# Altium footprint library con-subd.PCBLIB: 94 footprints (part 3 of 6)
Each footprint in its own frame and in the unit in brackets; x right, y up, seen from the top. Pads: shape width x height; smd on the part's side, far side on the other; paste and mask are expansions set on the pad; w line width, h text height; cw(c..) or ccw(c..) is an arc to the next point about the centre after c.
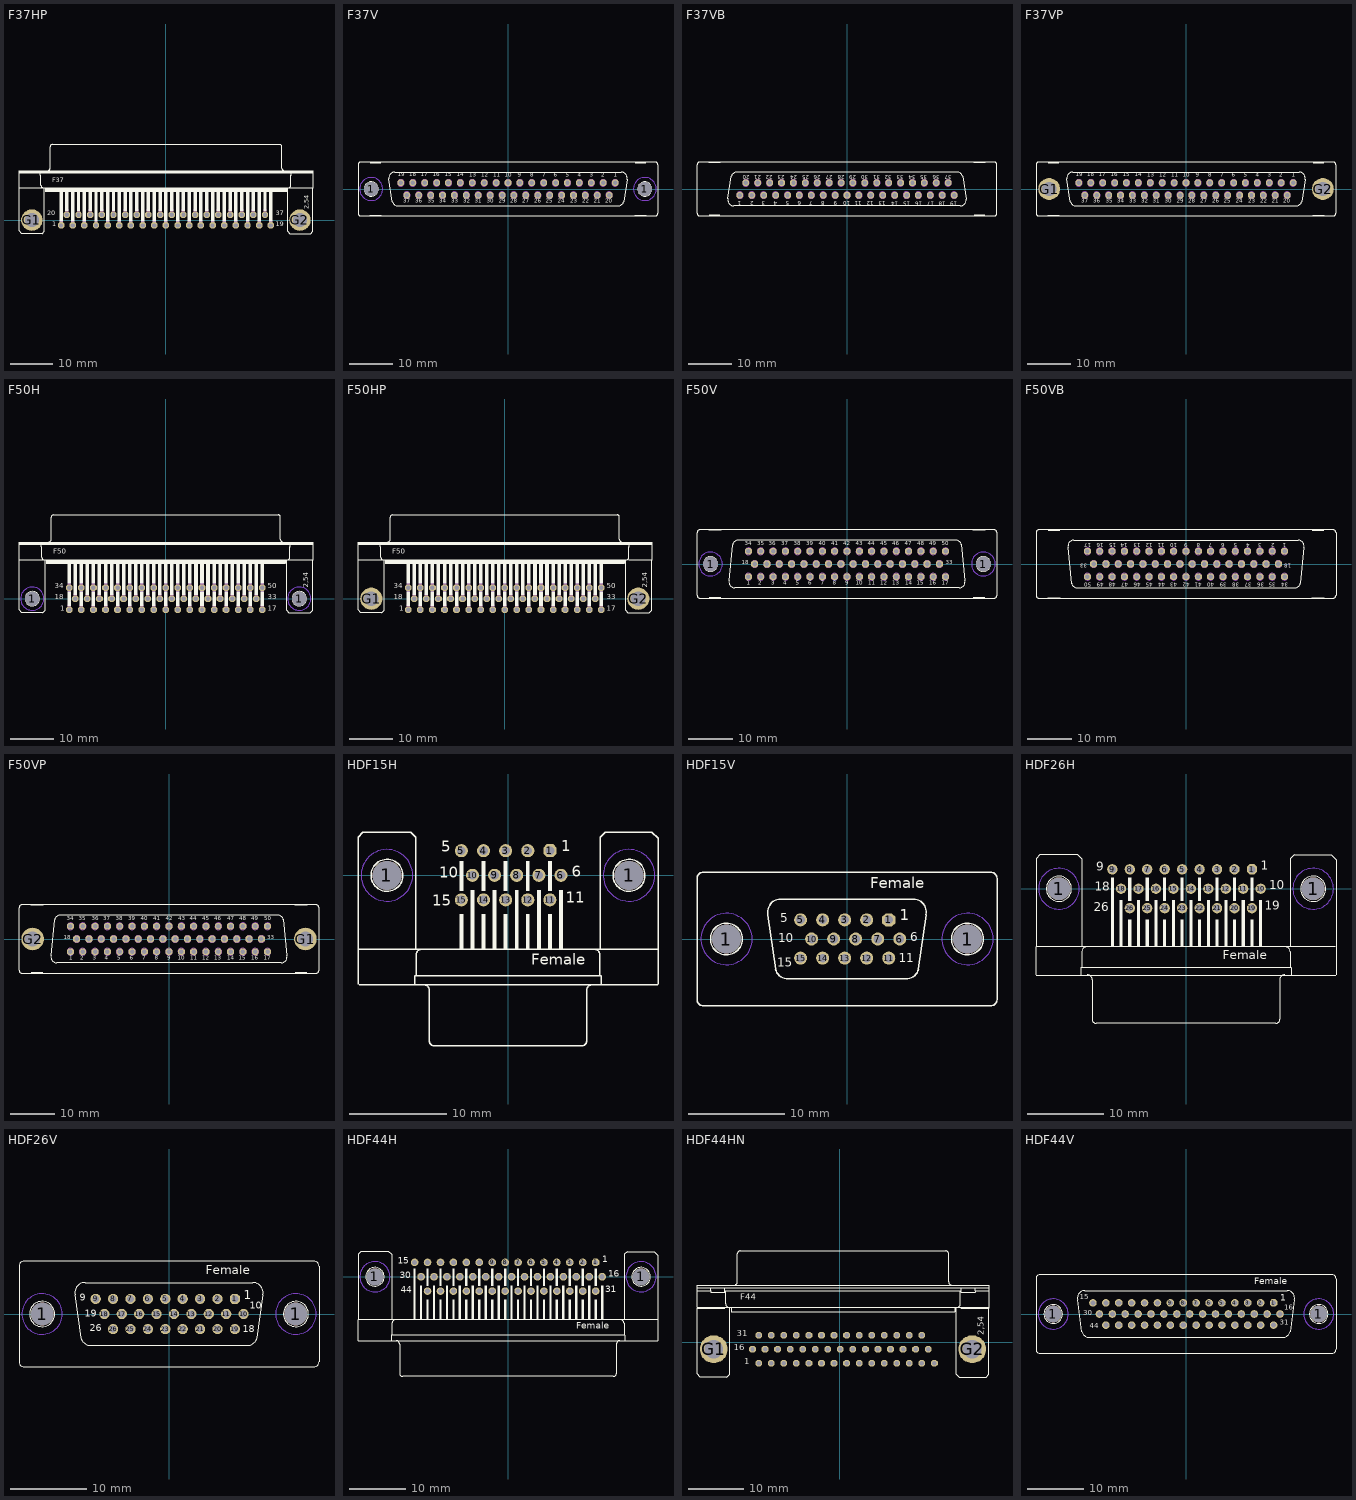
[diagram p2: the footprints below, top view; thin cyan lines are the x and y axes]

## F37HP [mil]
pads (39):
  oct 60x60 hole 40: 1(-978,-50) 2(-869,-50) 3(-761,-50) 4(-652,-50) 5(-543,-50) 6(-435,-50) 7(-326,-50) 8(-217,-50) 9(-109,-50) 10(0,-50) 11(109,-50) 12(217,-50) 13(326,-50) 14(435,-50) 15(544,-50) 16(652,-50) 17(761,-50) 18(870,-50) 19(978,-50) 20(-924,50) 21(-815,50) 22(-706,50) 23(-598,50) 24(-489,50) 25(-380,50) 26(-272,50) 27(-163,50) 28(-54,50) 29(54,50) 30(163,50) 31(272,50) 32(381,50) 33(489,50) 34(598,50) 35(707,50) 36(815,50) 37(924,50)
  round 200 hole 130: G1(-1250,0) G2(1250,0)
Top Overlay:
  circle w6: c-1250,0 r65
  circle w6: c1250,0 r65
  rectangle: -1125,270 1125,300
  rectangle: -1370,440 1370,460
  rectangle: -994,-15 -962,270
  rectangle: -940,85 -908,270
  rectangle: -885,-15 -853,270
  rectangle: -831,85 -799,270
  rectangle: -777,-15 -745,270
  rectangle: -722,85 -690,270
  rectangle: -668,-15 -636,270
  rectangle: -614,85 -582,270
  rectangle: -559,-15 -527,270
  rectangle: -505,85 -473,270
  rectangle: -451,-15 -419,270
  rectangle: -396,85 -364,270
  rectangle: -342,-15 -310,270
  rectangle: -288,85 -256,270
  rectangle: -233,-15 -201,270
  rectangle: -179,85 -147,270
  rectangle: -124,-15 -92,270
  rectangle: -70,85 -38,270
  rectangle: -16,-15 16,270
  rectangle: 38,85 70,270
  rectangle: 93,-15 125,270
  rectangle: 147,85 179,270
  rectangle: 201,-15 233,270
  rectangle: 256,85 288,270
  rectangle: 310,-15 342,270
  rectangle: 364,85 396,270
  rectangle: 419,-15 451,270
  rectangle: 473,85 505,270
  rectangle: 528,-15 560,270
  rectangle: 582,85 614,270
  rectangle: 636,-15 668,270
  rectangle: 691,85 723,270
  rectangle: 746,-15 778,270
  rectangle: 799,85 831,270
  rectangle: 853,-15 885,270
  rectangle: 908,85 940,270
  rectangle: 962,-15 994,270
  lines w6: -1140,300 cw(c-1140,325) -1165,325 -1165,420 -1170,420 -1170,440 ; -1105,460 ccw(c-1105,485) -1080,485 -1080,685 cw(c-1060,685) -1060,705 -1050,705 1050,705 1060,705 cw(c1060,685) 1080,685 1080,485 ccw(c1105,485) 1105,460 ; 1140,300 ccw(c1140,325) 1165,325 1165,420 1170,420 1170,440 ; -1370,300 -1170,300 -1135,300 ; -1370,300 -1370,420 -1370,440 ; -1370,300 -1370,295 -1370,-100 -1345,-125 -1155,-125 -1135,-105 -1135,300 ; -1370,440 -1370,460 -1065,460 1065,460 1370,460 1370,440 ; -1370,440 -1270,440 -1170,440 ; -1170,440 1170,440 ; -1135,300 -1125,300 ; -1125,300 -1125,270 1125,270 1125,300 ; -1125,300 1125,300 ; 1125,300 1135,300 ; 1135,300 1170,300 1370,300 ; 1135,300 1135,-105 1155,-125 1350,-125 1370,-105 1370,295 1370,300 ; 1170,440 1270,440 1370,440 ; 1370,300 1370,420 1370,440
  text "1" at -1060,-75 h77.5
  text "19" at 1025,-75 h77.5
  text "20" at -1105,25 h77.5
  text "37" at 1025,25 h77.5
  text "2,54" at 1350,100 h77.5
  text "F37" at -1060,335 h77.5
Mechanical 16:
  lines w32: -978,-45 -978,-5 ; -924,55 -924,95 ; -869,-45 -869,-5 ; -815,55 -815,95 ; -761,-45 -761,-5 ; -706,55 -706,95 ; -652,-45 -652,-5 ; -598,55 -598,95 ; -543,-45 -543,-5 ; -489,55 -489,95 ; -435,-45 -435,-5 ; -380,55 -380,95 ; -326,-45 -326,-5 ; -272,55 -272,95 ; -217,-45 -217,-5 ; -163,55 -163,95 ; -109,-45 -109,-5 ; -54,55 -54,95 ; 0,-45 0,-5 ; 54,55 54,95 ; 109,-45 109,-5 ; 163,55 163,95 ; 217,-45 217,-5 ; 272,55 272,95 ; 326,-45 326,-5 ; 380,55 380,95 ; 435,-45 435,-5 ; 489,55 489,95 ; 544,-45 544,-5 ; 598,55 598,95 ; 652,-45 652,-5 ; 707,55 707,95 ; 761,-45 761,-5 ; 815,55 815,95 ; 870,-45 870,-5 ; 924,55 924,95 ; 978,-45 978,-5

## F37V [mil]
pads (39):
  round 130 hole 130: 1(-1250,0) 1(1250,0)
  oct 60x60 hole 40: 1(978,56) 2(869,56) 3(761,56) 4(652,56) 5(543,56) 6(435,56) 7(326,56) 8(217,56) 9(109,56) 10(0,56) 11(-109,56) 12(-217,56) 13(-326,56) 14(-435,56) 15(-544,56) 16(-652,56) 17(-761,56) 18(-870,56) 19(-978,56) 20(924,-56) 21(815,-56) 22(706,-56) 23(598,-56) 24(489,-56) 25(380,-56) 26(272,-56) 27(163,-56) 28(54,-56) 29(-54,-56) 30(-163,-56) 31(-272,-56) 32(-381,-56) 33(-489,-56) 34(-598,-56) 35(-707,-56) 36(-815,-56) 37(-924,-56)
Bottom Layer keep-out:
  circle w0: c1250,0 r105
  circle w0: c-1250,0 r105
Top Overlay:
  circle w6: c-1250,0 r65
  circle w6: c1250,0 r65
  lines w6: -1087,92 -1056,-116 ; -1086.97,91.61 cw(c-1035,102) -1035,155 1035,155 cw(c1035,101.99) 1086.79,90.7 ; -1056.3,-115.33 ccw(c-1005,-101.99) -1005,-155 1005,-155 ccw(c1004.99,-102) 1056.52,-114.37 ; 1056,-115 1087,91 ; -1260,-245 -1260,-240 -1160,-240 -1160,-245 ; -1260,-245 -1160,-245 ; -1260,-245 -1345,-245 cw(c-1345,-220) -1370,-220 -1370,220 cw(c-1345,220) -1345,245 -1260,245 ; -1260,245 -1260,240 -1160,240 -1160,245 ; -1260,245 -1160,245 ; -1160,-245 1160,-245 ; -1160,245 1160,245 ; 1160,-245 1160,-240 1260,-240 1260,-245 ; 1160,-245 1260,-245 ; 1160,245 1160,240 1260,240 1260,245 ; 1160,245 1260,245 ; 1260,-245 1345,-245 ccw(c1345,-220) 1370,-220 1370,220 ccw(c1345,220) 1345,245 1260,245
  text "1" at 966,100 h60.45
  text "2" at 851,100 h60.45
  text "3" at 746,100 h60.45
  text "4" at 636,100 h60.45
  text "5" at 526,100 h60.45
  text "6" at 416,100 h60.45
  text "7" at 311,100 h60.45
  text "8" at 201,100 h60.45
  text "9" at 91,100 h60.45
  text "10" at -29,100 h60.45
  text "11" at -134,100 h60.45
  text "12" at -244,100 h60.45
  text "13" at -354,100 h60.45
  text "25" at 343,-140 h60.45
  text "24" at 453,-140 h60.45
  text "23" at 568,-140 h60.45
  text "22" at 678,-140 h60.45
  text "21" at 783,-140 h60.45
  text "20" at 888,-140 h60.45
  text "19" at -1007,101 h60.45
  text "18" at -902,101 h60.45
  text "17" at -797,101 h60.45
  text "16" at -687,101 h60.45
  text "15" at -577,101 h60.45
  text "14" at -467,101 h60.45
  text "26" at 240,-140 h60.45
  text "27" at 130,-140 h60.45
  text "28" at 20,-140 h60.45
  text "29" at -85,-140 h60.45
  text "30" at -195,-140 h60.45
  text "31" at -305,-140 h60.45
  text "32" at -410,-140 h60.45
  text "33" at -520,-140 h60.45
  text "34" at -630,-140 h60.45
  text "35" at -735,-140 h60.45
  text "36" at -845,-140 h60.45
  text "37" at -955,-140 h60.45
Mechanical 16:
  circle w10: c54,-56 r30
  circle w10: c0,56 r30
  circle w10: c-54,-56 r30
  circle w10: c109,56 r30
  circle w10: c-109,56 r30
  circle w10: c163,-56 r30
  circle w10: c-163,-56 r30
  circle w10: c217,56 r30
  circle w10: c326,56 r30
  circle w10: c272,-56 r30
  circle w10: c380,-56 r30
  circle w10: c435,56 r30
  circle w10: c489,-56 r30
  circle w10: c543,56 r30
  circle w10: c598,-56 r30
  circle w10: c652,56 r30
  circle w10: c-217,56 r30
  circle w10: c-326,56 r30
  circle w10: c-435,56 r30
  circle w10: c-272,-56 r30
  circle w10: c-380,-56 r30
  circle w10: c-489,-56 r30
  circle w10: c-543,56 r30
  circle w10: c-652,56 r30
  circle w10: c-598,-56 r30
  circle w10: c761,56 r30
  circle w10: c869,56 r30
  circle w10: c978,56 r30
  circle w10: c706,-56 r30
  circle w10: c815,-56 r30
  circle w10: c924,-56 r30
  circle w10: c-761,56 r30
  circle w10: c-869,56 r30
  circle w10: c-978,56 r30
  circle w10: c-706,-56 r30
  circle w10: c-815,-56 r30
  circle w10: c-924,-56 r30
Via Holes:
  circle w0: c1250,0 r105
  circle w0: c-1250,0 r105

## F37VB [mil]
pads (37):
  oct 60x60 hole 40: 1(-978,-56) 2(-869,-56) 3(-761,-56) 4(-652,-56) 5(-543,-56) 6(-435,-56) 7(-326,-56) 8(-217,-56) 9(-109,-56) 10(0,-56) 11(109,-56) 12(217,-56) 13(326,-56) 14(435,-56) 15(544,-56) 16(652,-56) 17(761,-56) 18(870,-56) 19(978,-56) 20(-924,56) 21(-815,56) 22(-706,56) 23(-598,56) 24(-489,56) 25(-380,56) 26(-272,56) 27(-163,56) 28(-54,56) 29(54,56) 30(163,56) 31(272,56) 32(381,56) 33(489,56) 34(598,56) 35(707,56) 36(815,56) 37(924,56)
Top Overlay:
  lines w6: -1087,-91 -1056,115 ; -1086.79,-90.7 ccw(c-1035,-101.99) -1035,-155 1035,-155 ccw(c1035,-102) 1086.97,-91.61 ; -1056.52,114.37 cw(c-1004.99,102) -1005,155 1005,155 cw(c1005,101.99) 1056.3,115.33 ; 1056,116 1087,-92 ; -1260,-245 -1345,-245 cw(c-1345,-220) -1370,-220 -1370,220 cw(c-1345,220) -1345,245 -1260,245 ; -1260,-245 -1260,-240 -1160,-240 -1160,-245 ; -1260,-245 -1160,-245 ; -1260,245 -1160,245 ; -1260,245 -1260,240 -1160,240 -1160,245 ; -1160,-245 1160,-245 ; -1160,245 1160,245 ; 1160,-245 1160,-240 1260,-240 1260,-245 ; 1160,-245 1260,-245 ; 1160,245 1260,245 ; 1160,245 1160,240 1260,240 1260,245 ; 1260,-245 1345,-245 ccw(c1345,-220) 1370,-220 1370,220 ccw(c1345,220) 1345,245 1260,245
  text "1" at -966,-100 h60.45
  text "2" at -851,-100 h60.45
  text "3" at -746,-100 h60.45
  text "4" at -636,-100 h60.45
  text "5" at -526,-100 h60.45
  text "6" at -416,-100 h60.45
  text "7" at -311,-100 h60.45
  text "8" at -201,-100 h60.45
  text "9" at -91,-100 h60.45
  text "10" at 29,-100 h60.45
  text "11" at 134,-100 h60.45
  text "12" at 244,-100 h60.45
  text "13" at 354,-100 h60.45
  text "25" at -343,140 h60.45
  text "24" at -453,140 h60.45
  text "23" at -568,140 h60.45
  text "22" at -678,140 h60.45
  text "21" at -783,140 h60.45
  text "20" at -888,140 h60.45
  text "19" at 1007,-101 h60.45
  text "18" at 902,-101 h60.45
  text "17" at 797,-101 h60.45
  text "16" at 687,-101 h60.45
  text "15" at 577,-101 h60.45
  text "14" at 467,-101 h60.45
  text "26" at -240,140 h60.45
  text "27" at -130,140 h60.45
  text "28" at -20,140 h60.45
  text "29" at 85,140 h60.45
  text "30" at 195,140 h60.45
  text "31" at 305,140 h60.45
  text "32" at 410,140 h60.45
  text "33" at 520,140 h60.45
  text "34" at 630,140 h60.45
  text "35" at 735,140 h60.45
  text "36" at 845,140 h60.45
  text "37" at 955,140 h60.45
Mechanical 16:
  circle w10: c-54,56 r30
  circle w10: c0,-56 r30
  circle w10: c54,56 r30
  circle w10: c-109,-56 r30
  circle w10: c109,-56 r30
  circle w10: c-163,56 r30
  circle w10: c163,56 r30
  circle w10: c-217,-56 r30
  circle w10: c-326,-56 r30
  circle w10: c-272,56 r30
  circle w10: c-380,56 r30
  circle w10: c-435,-56 r30
  circle w10: c-489,56 r30
  circle w10: c-543,-56 r30
  circle w10: c-598,56 r30
  circle w10: c-652,-56 r30
  circle w10: c217,-56 r30
  circle w10: c326,-56 r30
  circle w10: c435,-56 r30
  circle w10: c272,56 r30
  circle w10: c380,56 r30
  circle w10: c489,56 r30
  circle w10: c543,-56 r30
  circle w10: c652,-56 r30
  circle w10: c598,56 r30
  circle w10: c-761,-56 r30
  circle w10: c-869,-56 r30
  circle w10: c-978,-56 r30
  circle w10: c-706,56 r30
  circle w10: c-815,56 r30
  circle w10: c-924,56 r30
  circle w10: c761,-56 r30
  circle w10: c869,-56 r30
  circle w10: c978,-56 r30
  circle w10: c706,56 r30
  circle w10: c815,56 r30
  circle w10: c924,56 r30

## F37VP [mil]
pads (39):
  oct 60x60 hole 40: 1(978,56) 2(869,56) 3(761,56) 4(652,56) 5(543,56) 6(435,56) 7(326,56) 8(217,56) 9(109,56) 10(0,56) 11(-109,56) 12(-217,56) 13(-326,56) 14(-435,56) 15(-544,56) 16(-652,56) 17(-761,56) 18(-870,56) 19(-978,56) 20(924,-56) 21(815,-56) 22(706,-56) 23(598,-56) 24(489,-56) 25(380,-56) 26(272,-56) 27(163,-56) 28(54,-56) 29(-54,-56) 30(-163,-56) 31(-272,-56) 32(-381,-56) 33(-489,-56) 34(-598,-56) 35(-707,-56) 36(-815,-56) 37(-924,-56)
  round 200 hole 130: G1(-1250,0) G2(1250,0)
Top Overlay:
  circle w6: c-1250,0 r65
  circle w6: c1250,0 r65
  lines w6: -1087,92 -1056,-116 ; -1086.97,91.61 cw(c-1035,102) -1035,155 1035,155 cw(c1035,101.99) 1086.79,90.7 ; -1056.3,-115.33 ccw(c-1005,-101.99) -1005,-155 1005,-155 ccw(c1004.99,-102) 1056.52,-114.37 ; 1056,-115 1087,91 ; -1260,-245 -1260,-240 -1160,-240 -1160,-245 ; -1260,-245 -1160,-245 ; -1260,-245 -1345,-245 cw(c-1345,-220) -1370,-220 -1370,220 cw(c-1345,220) -1345,245 -1260,245 ; -1260,245 -1260,240 -1160,240 -1160,245 ; -1260,245 -1160,245 ; -1160,-245 1160,-245 ; -1160,245 1160,245 ; 1160,-245 1160,-240 1260,-240 1260,-245 ; 1160,-245 1260,-245 ; 1160,245 1160,240 1260,240 1260,245 ; 1160,245 1260,245 ; 1260,-245 1345,-245 ccw(c1345,-220) 1370,-220 1370,220 ccw(c1345,220) 1345,245 1260,245
  text "1" at 966,100 h60.45
  text "2" at 851,100 h60.45
  text "3" at 746,100 h60.45
  text "4" at 636,100 h60.45
  text "5" at 526,100 h60.45
  text "6" at 416,100 h60.45
  text "7" at 311,100 h60.45
  text "8" at 201,100 h60.45
  text "9" at 91,100 h60.45
  text "10" at -29,100 h60.45
  text "11" at -134,100 h60.45
  text "12" at -244,100 h60.45
  text "13" at -354,100 h60.45
  text "25" at 343,-140 h60.45
  text "24" at 453,-140 h60.45
  text "23" at 568,-140 h60.45
  text "22" at 678,-140 h60.45
  text "21" at 783,-140 h60.45
  text "20" at 888,-140 h60.45
  text "19" at -1007,101 h60.45
  text "18" at -902,101 h60.45
  text "17" at -797,101 h60.45
  text "16" at -687,101 h60.45
  text "15" at -577,101 h60.45
  text "14" at -467,101 h60.45
  text "26" at 240,-140 h60.45
  text "27" at 130,-140 h60.45
  text "28" at 20,-140 h60.45
  text "29" at -85,-140 h60.45
  text "30" at -195,-140 h60.45
  text "31" at -305,-140 h60.45
  text "32" at -410,-140 h60.45
  text "33" at -520,-140 h60.45
  text "34" at -630,-140 h60.45
  text "35" at -735,-140 h60.45
  text "36" at -845,-140 h60.45
  text "37" at -955,-140 h60.45
Mechanical 16:
  circle w10: c54,-56 r30
  circle w10: c0,56 r30
  circle w10: c-54,-56 r30
  circle w10: c109,56 r30
  circle w10: c-109,56 r30
  circle w10: c163,-56 r30
  circle w10: c-163,-56 r30
  circle w10: c217,56 r30
  circle w10: c326,56 r30
  circle w10: c272,-56 r30
  circle w10: c380,-56 r30
  circle w10: c435,56 r30
  circle w10: c489,-56 r30
  circle w10: c543,56 r30
  circle w10: c598,-56 r30
  circle w10: c652,56 r30
  circle w10: c-217,56 r30
  circle w10: c-326,56 r30
  circle w10: c-435,56 r30
  circle w10: c-272,-56 r30
  circle w10: c-380,-56 r30
  circle w10: c-489,-56 r30
  circle w10: c-543,56 r30
  circle w10: c-652,56 r30
  circle w10: c-598,-56 r30
  circle w10: c761,56 r30
  circle w10: c869,56 r30
  circle w10: c978,56 r30
  circle w10: c706,-56 r30
  circle w10: c815,-56 r30
  circle w10: c924,-56 r30
  circle w10: c-761,56 r30
  circle w10: c-869,56 r30
  circle w10: c-978,56 r30
  circle w10: c-706,-56 r30
  circle w10: c-815,-56 r30
  circle w10: c-924,-56 r30

## F50H [mil]
pads (52):
  round 130 hole 130: 1(-1203,0) 1(1203,0)
  oct 60x60 hole 40: 1(-869,-100) 2(-761,-100) 3(-652,-100) 4(-543,-100) 5(-435,-100) 6(-326,-100) 7(-217,-100) 8(-109,-100) 9(0,-100) 10(109,-100) 11(217,-100) 12(326,-100) 13(435,-100) 14(543,-100) 15(652,-100) 16(761,-100) 17(869,-100) 18(-815,0) 19(-707,0) 20(-598,0) 21(-489,0) 22(-381,0) 23(-272,0) 24(-163,0) 25(-55,0) 26(54,0) 27(163,0) 28(271,0) 29(380,0) 30(489,0) 31(598,0) 32(706,0) 33(815,0) 34(-869,100) 35(-761,100) 36(-652,100) 37(-543,100) 38(-435,100) 39(-326,100) 40(-217,100) 41(-109,100) 42(0,100) 43(109,100) 44(217,100) 45(326,100) 46(435,100) 47(543,100) 48(652,100) 49(761,100) 50(869,100)
Bottom Layer keep-out:
  circle w0: c-1203,0 r105
  circle w0: c1203,0 r105
Top Overlay:
  circle w6: c-1203,0 r65
  circle w6: c1203,0 r65
  rectangle: -1322,490 1323,510
  rectangle: -1077,320 1078,350
  rectangle: -885,-65 -853,65
  rectangle: -831,35 -799,320
  rectangle: -885,135 -853,320
  rectangle: -777,135 -745,320
  rectangle: -668,135 -636,320
  rectangle: -559,135 -527,320
  rectangle: -451,135 -419,320
  rectangle: -342,135 -310,320
  rectangle: -233,135 -201,320
  rectangle: -125,135 -93,320
  rectangle: -16,135 16,320
  rectangle: 93,135 125,320
  rectangle: 201,135 233,320
  rectangle: 419,135 451,320
  rectangle: 310,135 342,320
  rectangle: 527,135 559,320
  rectangle: 636,135 668,320
  rectangle: 745,135 777,320
  rectangle: 853,135 885,320
  rectangle: -777,-66 -745,64
  rectangle: -723,35 -691,320
  rectangle: -668,-65 -636,65
  rectangle: -559,-65 -527,65
  rectangle: -614,35 -582,320
  rectangle: -505,35 -473,320
  rectangle: -397,35 -365,320
  rectangle: -451,-65 -419,65
  rectangle: -342,-65 -310,65
  rectangle: -288,35 -256,320
  rectangle: -233,-65 -201,65
  rectangle: -179,35 -147,320
  rectangle: -125,-65 -93,65
  rectangle: -16,-65 16,65
  rectangle: -71,35 -39,320
  rectangle: 38,35 70,320
  rectangle: 147,35 179,320
  rectangle: 93,-65 125,65
  rectangle: 256,35 288,320
  rectangle: 201,-65 233,65
  rectangle: 310,-65 342,65
  rectangle: 364,35 396,320
  rectangle: 473,35 505,320
  rectangle: 419,-65 451,65
  rectangle: 582,35 614,320
  rectangle: 527,-65 559,65
  rectangle: 636,-65 668,65
  rectangle: 745,-65 777,65
  rectangle: 853,-65 885,65
  rectangle: 690,35 722,320
  rectangle: 799,35 831,320
  lines w6: -1093,350 cw(c-1093,375) -1118,375 -1118,470 -1123,470 -1123,490 ; -1058,510 ccw(c-1058,535) -1033,535 -1033,735 cw(c-1013,735) -1013,755 -1003,755 1003,755 1013,755 cw(c1013,735) 1033,735 1033,535 ccw(c1058,535) 1058,510 ; 1093,350 ccw(c1093,375) 1118,375 1118,470 1123,470 1123,490 ; -1323,350 -1123,350 -1088,350 ; -1323,350 -1323,470 -1323,490 ; -1323,350 -1323,345 -1323,-100 -1298,-125 -1108,-125 -1088,-105 -1088,350 ; -1323,490 -1323,510 -1018,510 1018,510 1323,510 1323,490 ; -1323,490 -1223,490 -1123,490 ; -1123,490 1123,490 ; -1088,350 -1078,350 ; -1078,350 -1078,320 1078,320 1078,350 ; -1078,350 1078,350 ; 1078,350 1088,350 ; 1088,350 1123,350 1323,350 ; 1088,350 1088,-105 1108,-125 1303,-125 1323,-105 1323,345 1323,350 ; 1123,490 1223,490 1323,490 ; 1323,350 1323,470 1323,490
  text "2,54" at 1303,100 h77.5
  text "1" at -953,-125 h77.5
  text "17" at 918,-125 h77.5
  text "18" at -1003,-25 h77.5
  text "50" at 918,75 h77.5
  text "33" at 918,-25 h77.5
  text "34" at -1003,75 h77.5
  text "F50" at -1013,385 h77.5
Mechanical 16:
  lines w32: -869,-100 -869,-60 ; -869,70 -869,130 ; -815,0 -815,40 ; -761,-100 -761,-60 ; -761,70 -761,130 ; -707,0 -707,40 ; -652,-100 -652,-60 ; -652,70 -652,130 ; -598,0 -598,40 ; -543,-100 -543,-60 ; -543,70 -543,130 ; -489,0 -489,40 ; -435,-100 -435,-60 ; -435,70 -435,130 ; -381,0 -381,40 ; -326,-100 -326,-60 ; -326,70 -326,130 ; -272,0 -272,40 ; -217,-100 -217,-60 ; -217,70 -217,130 ; -163,0 -163,40 ; -109,-100 -109,-60 ; -109,70 -109,130 ; -55,0 -55,40 ; 0,-100 0,-60 ; 0,70 0,130 ; 54,0 54,40 ; 109,-100 109,-60 ; 109,69 109,129 ; 163,0 163,40 ; 217,-100 217,-60 ; 217,70 217,130 ; 272,0 272,40 ; 326,-100 326,-60 ; 326,70 326,130 ; 380,0 380,40 ; 435,-100 435,-60 ; 435,70 435,130 ; 489,0 489,40 ; 543,-100 543,-60 ; 543,70 543,130 ; 598,0 598,40 ; 652,-100 652,-60 ; 652,70 652,130 ; 706,0 706,40 ; 761,-100 761,-60 ; 761,70 761,130 ; 815,0 815,40 ; 869,-100 869,-60 ; 869,70 869,130
Via Holes:
  circle w0: c-1203,0 r105
  circle w0: c1203,0 r105

## F50HP [mil]
pads (52):
  oct 60x60 hole 40: 1(-869,-100) 2(-761,-100) 3(-652,-100) 4(-543,-100) 5(-435,-100) 6(-326,-100) 7(-217,-100) 8(-109,-100) 9(0,-100) 10(109,-100) 11(217,-100) 12(326,-100) 13(435,-100) 14(543,-100) 15(652,-100) 16(761,-100) 17(869,-100) 18(-815,0) 19(-707,0) 20(-598,0) 21(-489,0) 22(-381,0) 23(-272,0) 24(-163,0) 25(-55,0) 26(54,0) 27(163,0) 28(271,0) 29(380,0) 30(489,0) 31(598,0) 32(706,0) 33(815,0) 34(-869,100) 35(-761,100) 36(-652,100) 37(-543,100) 38(-435,100) 39(-326,100) 40(-217,100) 41(-109,100) 42(0,100) 43(109,100) 44(217,100) 45(326,100) 46(435,100) 47(543,100) 48(652,100) 49(761,100) 50(869,100)
  round 200 hole 130: G1(-1203,0) G2(1203,0)
Top Overlay:
  circle w6: c-1203,0 r65
  circle w6: c1203,0 r65
  rectangle: -1322,490 1323,510
  rectangle: -1077,320 1078,350
  rectangle: -885,-65 -853,65
  rectangle: -831,35 -799,320
  rectangle: -885,135 -853,320
  rectangle: -777,135 -745,320
  rectangle: -668,135 -636,320
  rectangle: -559,135 -527,320
  rectangle: -451,135 -419,320
  rectangle: -342,135 -310,320
  rectangle: -233,135 -201,320
  rectangle: -125,135 -93,320
  rectangle: -16,135 16,320
  rectangle: 93,135 125,320
  rectangle: 201,135 233,320
  rectangle: 419,135 451,320
  rectangle: 310,135 342,320
  rectangle: 527,135 559,320
  rectangle: 636,135 668,320
  rectangle: 745,135 777,320
  rectangle: 853,135 885,320
  rectangle: -777,-66 -745,64
  rectangle: -723,35 -691,320
  rectangle: -668,-65 -636,65
  rectangle: -559,-65 -527,65
  rectangle: -614,35 -582,320
  rectangle: -505,35 -473,320
  rectangle: -397,35 -365,320
  rectangle: -451,-65 -419,65
  rectangle: -342,-65 -310,65
  rectangle: -288,35 -256,320
  rectangle: -233,-65 -201,65
  rectangle: -179,35 -147,320
  rectangle: -125,-65 -93,65
  rectangle: -16,-65 16,65
  rectangle: -71,35 -39,320
  rectangle: 38,35 70,320
  rectangle: 147,35 179,320
  rectangle: 93,-65 125,65
  rectangle: 256,35 288,320
  rectangle: 201,-65 233,65
  rectangle: 310,-65 342,65
  rectangle: 364,35 396,320
  rectangle: 473,35 505,320
  rectangle: 419,-65 451,65
  rectangle: 582,35 614,320
  rectangle: 527,-65 559,65
  rectangle: 636,-65 668,65
  rectangle: 745,-65 777,65
  rectangle: 853,-65 885,65
  rectangle: 690,35 722,320
  rectangle: 799,35 831,320
  lines w6: -1093,350 cw(c-1093,375) -1118,375 -1118,470 -1123,470 -1123,490 ; -1058,510 ccw(c-1058,535) -1033,535 -1033,735 cw(c-1013,735) -1013,755 -1003,755 1003,755 1013,755 cw(c1013,735) 1033,735 1033,535 ccw(c1058,535) 1058,510 ; 1093,350 ccw(c1093,375) 1118,375 1118,470 1123,470 1123,490 ; 1123,345 1123,350 1323,350 ; -1323,350 -1123,350 -1088,350 ; -1323,350 -1323,470 -1323,490 ; -1323,350 -1323,345 -1323,-100 -1298,-125 -1108,-125 -1088,-105 -1088,350 ; -1323,490 -1323,510 -1018,510 1018,510 1323,510 1323,490 ; -1323,490 -1223,490 -1123,490 ; -1123,490 1123,490 ; -1088,350 -1078,350 ; -1078,350 -1078,320 1078,320 1078,350 ; -1078,350 1078,350 ; 1078,350 1088,350 1088,-105 1108,-125 1303,-125 1323,-105 1323,345 1323,350 ; 1123,490 1223,490 1323,490 ; 1323,350 1323,470 1323,490
  text "2,54" at 1303,100 h77.5
  text "1" at -953,-125 h77.5
  text "17" at 918,-125 h77.5
  text "18" at -1003,-25 h77.5
  text "50" at 918,75 h77.5
  text "33" at 918,-25 h77.5
  text "34" at -1003,75 h77.5
  text "F50" at -1013,385 h77.5
Mechanical 16:
  lines w32: -869,-100 -869,-60 ; -869,70 -869,130 ; -815,0 -815,40 ; -761,-100 -761,-60 ; -761,70 -761,130 ; -707,0 -707,40 ; -652,-100 -652,-60 ; -652,70 -652,130 ; -598,0 -598,40 ; -543,-100 -543,-60 ; -543,70 -543,130 ; -489,0 -489,40 ; -435,-100 -435,-60 ; -435,70 -435,130 ; -381,0 -381,40 ; -326,-100 -326,-60 ; -326,70 -326,130 ; -272,0 -272,40 ; -217,-100 -217,-60 ; -217,70 -217,130 ; -163,0 -163,40 ; -109,-100 -109,-60 ; -109,70 -109,130 ; -55,0 -55,40 ; 0,-100 0,-60 ; 0,70 0,130 ; 54,0 54,40 ; 109,-100 109,-60 ; 109,69 109,129 ; 163,0 163,40 ; 217,-100 217,-60 ; 217,70 217,130 ; 272,0 272,40 ; 326,-100 326,-60 ; 326,70 326,130 ; 380,0 380,40 ; 435,-100 435,-60 ; 435,70 435,130 ; 489,0 489,40 ; 543,-100 543,-60 ; 543,70 543,130 ; 598,0 598,40 ; 652,-100 652,-60 ; 652,70 652,130 ; 706,0 706,40 ; 761,-100 761,-60 ; 761,70 761,130 ; 815,0 815,40 ; 869,-100 869,-60 ; 869,70 869,130

## F50V [mil]
pads (52):
  round 130 hole 130: 1(-1203,0) 1(1203,0)
  oct 60x60 hole 40: 1(-869,-112) 2(-761,-112) 3(-652,-112) 4(-543,-112) 5(-435,-112) 6(-326,-112) 7(-217,-112) 8(-109,-112) 9(0,-112) 10(109,-112) 11(217,-112) 12(326,-112) 13(435,-112) 14(543,-112) 15(652,-112) 16(761,-112) 17(869,-112) 18(-815,0) 19(-706,0) 20(-598,0) 21(-489,0) 22(-380,0) 23(-272,0) 24(-163,0) 25(-54,0) 26(54,0) 27(163,0) 28(272,0) 29(380,0) 30(489,0) 31(598,0) 32(706,0) 33(815,0) 34(-869,112) 35(-761,112) 36(-652,112) 37(-543,112) 38(-435,112) 39(-326,112) 40(-217,112) 41(-109,112) 42(0,112) 43(109,112) 44(217,112) 45(326,112) 46(435,112) 47(543,112) 48(652,112) 49(761,112) 50(869,112)
Bottom Layer keep-out:
  circle w0: c-1203,0 r105
  circle w0: c1203,0 r105
Top Overlay:
  circle w6: c1203,0 r65
  circle w6: c-1203,0 r65
  lines w6: -1040,-147 -1009,171 ; -1039.78,-146.7 ccw(c-988,-157.99) -988,-210.99 988,-211 ccw(c988,-158) 1039.97,-147.61 ; -1009.54,170.37 cw(c-957.99,158) -958,211.01 958,211 cw(c958,157.99) 1009.3,171.33 ; 1009,172 1040,-148 ; -1213,-301 -1298,-301 cw(c-1298,-276) -1323,-276 -1323,276 cw(c-1298,276) -1298,301 -1213,301 ; -1213,-301 -1213,-296 -1113,-296 -1113,-301 ; -1213,-301 -1113,-301 ; -1213,301 -1113,301 ; -1213,301 -1213,296 -1113,296 -1113,301 ; -1113,-301 1113,-301 ; -1113,301 1113,301 ; 1113,-301 1113,-296 1213,-296 1213,-301 ; 1113,-301 1213,-301 ; 1113,301 1213,301 ; 1113,301 1113,296 1213,296 1213,301 ; 1213,-301 1298,-301 ccw(c1298,-276) 1323,-276 1323,276 ccw(c1298,276) 1298,301 1213,301
  text "2" at -781,-196 h60.45
  text "3" at -666,-196 h60.45
  text "4" at -561,-196 h60.45
  text "5" at -451,-196 h60.45
  text "6" at -341,-196 h60.45
  text "7" at -231,-196 h60.45
  text "8" at -126,-196 h60.45
  text "9" at -16,-196 h60.45
  text "10" at 79,-196 h60.45
  text "11" at 189,-196 h60.45
  text "12" at 294,-196 h60.45
  text "13" at 399,-196 h60.45
  text "18" at -928,-17 h60.45
  text "17" at 837,-197 h60.45
  text "16" at 727,-197 h60.45
  text "15" at 617,-197 h60.45
  text "14" at 512,-197 h60.45
  text "1" at -886,-196 h60.45
  text "33" at 872,-17 h60.45
  text "34" at -903,154 h60.45
  text "35" at -793,154 h60.45
  text "36" at -688,154 h60.45
  text "37" at -578,154 h60.45
  text "38" at -468,154 h60.45
  text "39" at -358,154 h60.45
  text "40" at -250,154 h60.45
  text "41" at -140,154 h60.45
  text "42" at -35,154 h60.45
  text "43" at 75,154 h60.45
  text "44" at 185,154 h60.45
  text "45" at 295,154 h60.45
  text "46" at 400,154 h60.45
  text "47" at 510,154 h60.45
  text "48" at 620,154 h60.45
  text "49" at 725,154 h60.45
  text "50" at 835,154 h60.45
Mechanical 16:
  circle w10: c-54,0 r30
  circle w10: c0,-112 r30
  circle w10: c54,0 r30
  circle w10: c-109,-112 r30
  circle w10: c109,-112 r30
  circle w10: c-163,0 r30
  circle w10: c163,0 r30
  circle w10: c-217,-112 r30
  circle w10: c-326,-112 r30
  circle w10: c-272,0 r30
  circle w10: c-380,0 r30
  circle w10: c-435,-112 r30
  circle w10: c-489,0 r30
  circle w10: c-543,-112 r30
  circle w10: c-598,0 r30
  circle w10: c-652,-112 r30
  circle w10: c217,-112 r30
  circle w10: c326,-112 r30
  circle w10: c435,-112 r30
  circle w10: c272,0 r30
  circle w10: c380,0 r30
  circle w10: c489,0 r30
  circle w10: c543,-112 r30
  circle w10: c652,-112 r30
  circle w10: c598,0 r30
  circle w10: c-761,-112 r30
  circle w10: c-869,-112 r30
  circle w10: c-706,0 r30
  circle w10: c-815,0 r30
  circle w10: c761,-112 r30
  circle w10: c869,-112 r30
  circle w10: c706,0 r30
  circle w10: c815,0 r30
  circle w10: c0,112 r30
  circle w10: c-109,112 r30
  circle w10: c109,112 r30
  circle w10: c-217,112 r30
  circle w10: c-326,112 r30
  circle w10: c-435,112 r30
  circle w10: c-543,112 r30
  circle w10: c-652,112 r30
  circle w10: c217,112 r30
  circle w10: c326,112 r30
  circle w10: c435,112 r30
  circle w10: c543,112 r30
  circle w10: c652,112 r30
  circle w10: c-761,112 r30
  circle w10: c-869,112 r30
  circle w10: c761,112 r30
  circle w10: c869,112 r30
Via Holes:
  circle w0: c-1203,0 r105
  circle w0: c1203,0 r105

## F50VB [mil]
pads (50):
  oct 60x60 hole 40: 1(869,112) 2(761,112) 3(652,112) 4(543,112) 5(435,112) 6(326,112) 7(217,112) 8(109,112) 9(0,112) 10(-109,112) 11(-217,112) 12(-326,112) 13(-435,112) 14(-543,112) 15(-652,112) 16(-761,112) 17(-869,112) 18(815,0) 19(706,0) 20(598,0) 21(489,0) 22(380,0) 23(272,0) 24(163,0) 25(54,0) 26(-54,0) 27(-163,0) 28(-272,0) 29(-380,0) 30(-489,0) 31(-598,0) 32(-706,0) 33(-815,0) 34(869,-112) 35(761,-112) 36(652,-112) 37(543,-112) 38(435,-112) 39(326,-112) 40(217,-112) 41(109,-112) 42(0,-112) 43(-109,-112) 44(-217,-112) 45(-326,-112) 46(-435,-112) 47(-543,-112) 48(-652,-112) 49(-761,-112) 50(-869,-112)
Top Overlay:
  lines w6: -1040,148 -1009,-172 ; -1039.97,147.61 cw(c-988,158) -988,211 988,211 cw(c988,157.99) 1039.78,146.7 ; -1009.3,-171.33 ccw(c-958,-157.99) -958,-211 958,-211 ccw(c957.99,-158) 1009.54,-170.37 ; 1009,-171 1040,147 ; -1213,-301 -1213,-296 -1113,-296 -1113,-301 ; -1213,-301 -1113,-301 ; -1213,-301 -1298,-301 cw(c-1298,-276) -1323,-276 -1323,276 cw(c-1298,276) -1298,301 -1213,301 ; -1213,301 -1213,296 -1113,296 -1113,301 ; -1213,301 -1113,301 ; -1113,-301 1113,-301 ; -1113,301 1113,301 ; 1113,-301 1113,-296 1213,-296 1213,-301 ; 1113,-301 1213,-301 ; 1113,301 1113,296 1213,296 1213,301 ; 1113,301 1213,301 ; 1213,-301 1298,-301 ccw(c1298,-276) 1323,-276 1323,276 ccw(c1298,276) 1298,301 1213,301
  text "2" at 781,196 h60.45
  text "3" at 666,196 h60.45
  text "4" at 561,196 h60.45
  text "5" at 451,196 h60.45
  text "6" at 341,196 h60.45
  text "7" at 231,196 h60.45
  text "8" at 126,196 h60.45
  text "9" at 16,196 h60.45
  text "10" at -79,196 h60.45
  text "11" at -189,196 h60.45
  text "12" at -294,196 h60.45
  text "13" at -399,196 h60.45
  text "18" at 928,17 h60.45
  text "17" at -837,197 h60.45
  text "16" at -727,197 h60.45
  text "15" at -617,197 h60.45
  text "14" at -512,197 h60.45
  text "1" at 886,196 h60.45
  text "33" at -872,17 h60.45
  text "34" at 903,-154 h60.45
  text "35" at 793,-154 h60.45
  text "36" at 688,-154 h60.45
  text "37" at 578,-154 h60.45
  text "38" at 468,-154 h60.45
  text "39" at 358,-154 h60.45
  text "40" at 250,-154 h60.45
  text "41" at 140,-154 h60.45
  text "42" at 35,-154 h60.45
  text "43" at -75,-154 h60.45
  text "44" at -185,-154 h60.45
  text "45" at -295,-154 h60.45
  text "46" at -400,-154 h60.45
  text "47" at -510,-154 h60.45
  text "48" at -620,-154 h60.45
  text "49" at -725,-154 h60.45
  text "50" at -835,-154 h60.45
Mechanical 16:
  circle w10: c54,0 r30
  circle w10: c0,112 r30
  circle w10: c-54,0 r30
  circle w10: c109,112 r30
  circle w10: c-109,112 r30
  circle w10: c163,0 r30
  circle w10: c-163,0 r30
  circle w10: c217,112 r30
  circle w10: c326,112 r30
  circle w10: c272,0 r30
  circle w10: c380,0 r30
  circle w10: c435,112 r30
  circle w10: c489,0 r30
  circle w10: c543,112 r30
  circle w10: c598,0 r30
  circle w10: c652,112 r30
  circle w10: c-217,112 r30
  circle w10: c-326,112 r30
  circle w10: c-435,112 r30
  circle w10: c-272,0 r30
  circle w10: c-380,0 r30
  circle w10: c-489,0 r30
  circle w10: c-543,112 r30
  circle w10: c-652,112 r30
  circle w10: c-598,0 r30
  circle w10: c761,112 r30
  circle w10: c869,112 r30
  circle w10: c706,0 r30
  circle w10: c815,0 r30
  circle w10: c-761,112 r30
  circle w10: c-869,112 r30
  circle w10: c-706,0 r30
  circle w10: c-815,0 r30
  circle w10: c0,-112 r30
  circle w10: c109,-112 r30
  circle w10: c-109,-112 r30
  circle w10: c217,-112 r30
  circle w10: c326,-112 r30
  circle w10: c435,-112 r30
  circle w10: c543,-112 r30
  circle w10: c652,-112 r30
  circle w10: c-217,-112 r30
  circle w10: c-326,-112 r30
  circle w10: c-435,-112 r30
  circle w10: c-543,-112 r30
  circle w10: c-652,-112 r30
  circle w10: c761,-112 r30
  circle w10: c869,-112 r30
  circle w10: c-761,-112 r30
  circle w10: c-869,-112 r30

## F50VP [mil]
pads (52):
  oct 60x60 hole 40: 1(-869,-112) 2(-761,-112) 3(-652,-112) 4(-543,-112) 5(-435,-112) 6(-326,-112) 7(-217,-112) 8(-109,-112) 9(0,-112) 10(109,-112) 11(217,-112) 12(326,-112) 13(435,-112) 14(543,-112) 15(652,-112) 16(761,-112) 17(869,-112) 18(-815,0) 19(-706,0) 20(-598,0) 21(-489,0) 22(-380,0) 23(-272,0) 24(-163,0) 25(-54,0) 26(54,0) 27(163,0) 28(272,0) 29(380,0) 30(489,0) 31(598,0) 32(706,0) 33(815,0) 34(-869,112) 35(-761,112) 36(-652,112) 37(-543,112) 38(-435,112) 39(-326,112) 40(-217,112) 41(-109,112) 42(0,112) 43(109,112) 44(217,112) 45(326,112) 46(435,112) 47(543,112) 48(652,112) 49(761,112) 50(869,112)
  round 200 hole 130: G1(1203,0) G2(-1203,0)
Top Overlay:
  circle w6: c1203,0 r65
  circle w6: c-1203,0 r65
  lines w6: -1040,-147 -1009,171 ; -1039.78,-146.7 ccw(c-988,-157.99) -988,-210.99 988,-211 ccw(c988,-158) 1039.97,-147.61 ; -1009.54,170.37 cw(c-957.99,158) -958,211.01 958,211 cw(c958,157.99) 1009.3,171.33 ; 1009,172 1040,-148 ; -1213,-301 -1298,-301 cw(c-1298,-276) -1323,-276 -1323,276 cw(c-1298,276) -1298,301 -1213,301 ; -1213,-301 -1213,-296 -1113,-296 -1113,-301 ; -1213,-301 -1113,-301 ; -1213,301 -1113,301 ; -1213,301 -1213,296 -1113,296 -1113,301 ; -1113,-301 1113,-301 ; -1113,301 1113,301 ; 1113,-301 1113,-296 1213,-296 1213,-301 ; 1113,-301 1213,-301 ; 1113,301 1213,301 ; 1113,301 1113,296 1213,296 1213,301 ; 1213,-301 1298,-301 ccw(c1298,-276) 1323,-276 1323,276 ccw(c1298,276) 1298,301 1213,301
  text "2" at -781,-196 h60.45
  text "3" at -671,-196 h60.45
  text "4" at -566,-196 h60.45
  text "5" at -456,-196 h60.45
  text "6" at -346,-196 h60.45
  text "7" at -236,-196 h60.45
  text "8" at -126,-196 h60.45
  text "9" at -16,-196 h60.45
  text "10" at 79,-196 h60.45
  text "11" at 189,-196 h60.45
  text "12" at 294,-196 h60.45
  text "13" at 399,-196 h60.45
  text "18" at -928,-17 h60.45
  text "17" at 837,-197 h60.45
  text "16" at 727,-197 h60.45
  text "15" at 617,-197 h60.45
  text "14" at 512,-197 h60.45
  text "1" at -881,-196 h60.45
  text "33" at 867,-17 h60.45
  text "34" at -903,154 h60.45
  text "35" at -798,154 h60.45
  text "36" at -683,154 h60.45
  text "37" at -578,154 h60.45
  text "38" at -468,154 h60.45
  text "39" at -358,154 h60.45
  text "40" at -250,154 h60.45
  text "41" at -140,154 h60.45
  text "42" at -30,154 h60.45
  text "43" at 80,154 h60.45
  text "44" at 185,154 h60.45
  text "45" at 295,154 h60.45
  text "46" at 400,154 h60.45
  text "47" at 515,154 h60.45
  text "48" at 620,154 h60.45
  text "49" at 725,154 h60.45
  text "50" at 840,154 h60.45
Mechanical 16:
  circle w10: c-54,0 r30
  circle w10: c0,-112 r30
  circle w10: c54,0 r30
  circle w10: c-109,-112 r30
  circle w10: c109,-112 r30
  circle w10: c-163,0 r30
  circle w10: c163,0 r30
  circle w10: c-217,-112 r30
  circle w10: c-326,-112 r30
  circle w10: c-272,0 r30
  circle w10: c-380,0 r30
  circle w10: c-435,-112 r30
  circle w10: c-489,0 r30
  circle w10: c-543,-112 r30
  circle w10: c-598,0 r30
  circle w10: c-652,-112 r30
  circle w10: c217,-112 r30
  circle w10: c326,-112 r30
  circle w10: c435,-112 r30
  circle w10: c272,0 r30
  circle w10: c380,0 r30
  circle w10: c489,0 r30
  circle w10: c543,-112 r30
  circle w10: c652,-112 r30
  circle w10: c598,0 r30
  circle w10: c-761,-112 r30
  circle w10: c-869,-112 r30
  circle w10: c-706,0 r30
  circle w10: c-815,0 r30
  circle w10: c761,-112 r30
  circle w10: c869,-112 r30
  circle w10: c706,0 r30
  circle w10: c815,0 r30
  circle w10: c0,112 r30
  circle w10: c-109,112 r30
  circle w10: c109,112 r30
  circle w10: c-217,112 r30
  circle w10: c-326,112 r30
  circle w10: c-435,112 r30
  circle w10: c-543,112 r30
  circle w10: c-652,112 r30
  circle w10: c217,112 r30
  circle w10: c326,112 r30
  circle w10: c435,112 r30
  circle w10: c543,112 r30
  circle w10: c652,112 r30
  circle w10: c-761,112 r30
  circle w10: c-869,112 r30
  circle w10: c761,112 r30
  circle w10: c869,112 r30

## HDF15H [mm]
pads (17):
  round 3 hole 3: 1(-12.5,0) 1(12.5,0)
  oct 1.35x1.35 hole 0.9: 1(4.329,2.54)
  round 1.35 hole 0.9: 2(2.043,2.54) 3(-0.243,2.54) 4(-2.529,2.54) 5(-4.815,2.54) 6(5.472,0) 7(3.186,0) 8(0.9,0) 9(-1.386,0) 10(-3.672,0) 11(4.329,-2.54) 12(2.043,-2.54) 13(-0.243,-2.54) 14(-2.529,-2.54) 15(-4.815,-2.54)
Bottom Layer keep-out:
  circle w0: c12.5,0 r2.667
  circle w0: c-12.5,0 r2.667
Top Overlay:
  circle w0.152: c12.5,0 r1.651
  circle w0.152: c-12.5,0 r1.651
  rectangle: 0.7,-7.6 1.1,-1.5
  rectangle: -1.586,-7.6 -1.186,-1.5
  rectangle: -3.872,-7.6 -3.472,-1.5
  rectangle: 2.986,-7.6 3.386,-1.5
  rectangle: 5.272,-7.6 5.672,-1.5
  rectangle: -0.443,-7.6 -0.043,-4
  rectangle: -2.729,-7.6 -2.329,-4
  rectangle: -5.015,-7.6 -4.615,-4
  rectangle: 1.843,-7.6 2.243,-4
  rectangle: 4.129,-7.6 4.529,-4
  rectangle: -5.015,-1.6 -4.615,1.5
  rectangle: -2.729,-1.6 -2.329,1.5
  rectangle: -0.443,-1.6 -0.043,1.5
  rectangle: 1.843,-1.6 2.243,1.5
  rectangle: 4.129,-1.6 4.529,1.5
  lines w0.152: -15.494,-11.276 -15.494,-7.62 ; -15.38,-11.294 15.476,-11.294 ; -9.614,-11.276 -9.614,-10.368 -9.487,-10.368 ; -9.525,-7.62 -9.525,3.937 -10.033,4.445 -14.986,4.445 -15.494,3.937 -15.494,-7.62 ; -8.852,-7.62 ccw(c-8.852,-8.255) -9.487,-8.255 -9.487,-10.368 ; -8.763,-11.284 cw(c-8.763,-11.919) -8.128,-11.919 -8.128,-17.099 ccw(c-7.62,-17.099) -7.62,-17.607 7.62,-17.607 ccw(c7.62,-17.099) 8.128,-17.099 8.128,-11.919 cw(c8.763,-11.919) 8.763,-11.284 ; 8.852,-7.62 cw(c8.852,-8.255) 9.487,-8.255 9.487,-10.368 ; 9.525,-7.62 9.525,3.937 10.033,4.445 14.859,4.445 15.494,3.81 15.494,-11.276 ; 9.614,-11.276 9.614,-10.368 9.487,-10.368 ; 15.475,-7.62 -15.494,-7.62 ; -9.487,-10.368 9.487,-10.368
  text "1" at 5.48,2.095 h1.97
  text "5" at -6.915,1.995 h1.97
  text "6" at 6.58,-0.565 h1.97
  text "10" at -7.115,-0.665 h1.97
  text "15" at -7.82,-3.565 h1.97
  text "11" at 5.98,-3.265 h1.97
  text "Female" at 2.413,-9.652 h1.97
Mechanical 16:
  text "HDF15 CONEC" at -6.064,-14.717 h1.97
Via Holes:
  circle w0: c12.5,0 r2.667
  circle w0: c-12.5,0 r2.667

## HDF15V [mm]
pads (17):
  round 3 hole 3: 1(-12.5,0) 1(12.5,0)
  oct 1.35x1.35 hole 0.9: 1(4.329,1.98)
  round 1.35 hole 0.9: 2(2.043,1.98) 3(-0.243,1.98) 4(-2.529,1.98) 5(-4.815,1.98) 6(5.472,0) 7(3.186,0) 8(0.9,0) 9(-1.386,0) 10(-3.672,0) 11(4.329,-1.98) 12(2.043,-1.98) 13(-0.243,-1.98) 14(-2.529,-1.98) 15(-4.815,-1.98)
Bottom Layer keep-out:
  circle w0: c12.5,0 r2.667
  circle w0: c-12.5,0 r2.667
Top Overlay:
  circle w0.152: c12.5,0 r1.651
  circle w0.152: c-12.5,0 r1.651
  lines w0.152: -14.921,-6.923 cw(c-14.921,-6.288) -15.556,-6.288 -15.556,6.288 cw(c-14.921,6.288) -14.921,6.923 14.913,6.923 ; -14.913,-6.923 14.921,-6.923 ccw(c14.921,-6.288) 15.556,-6.288 15.556,6.288 ccw(c14.921,6.288) 14.921,6.923 ; -8.196,2.527 cw(c-6.876,2.791) -6.876,4.137 6.876,4.137 cw(c6.876,2.791) 8.191,2.504 ; -8.197,2.537 -7.409,-3.146 ; -7.417,-3.13 ccw(c-6.114,-2.791) -6.114,-4.137 6.114,-4.137 ccw(c6.114,-2.791) 7.417,-3.13 ; 7.409,-3.121 8.197,2.511
  text "1" at 5.48,1.535 h1.97
  text "5" at -6.915,1.435 h1.57
  text "6" at 6.58,-0.565 h1.57
  text "10" at -7.115,-0.665 h1.57
  text "15" at -7.22,-3.165 h1.57
  text "11" at 5.38,-2.705 h1.57
  text "Female" at 2.413,4.826 h1.97
Mechanical 16:
  text "HDF15 CONEC" at -12.033,5.349 h1.97
Via Holes:
  circle w0: c12.5,0 r2.667
  circle w0: c-12.5,0 r2.667

## HDF26H [mm]
pads (28):
  round 3 hole 3: 1(-16.65,0) 1(16.65,0)
  oct 1.35x1.35 hole 0.9: 1(8.639,2.54)
  round 1.35 hole 0.9: 2(6.353,2.54) 3(4.067,2.54) 4(1.781,2.54) 5(-0.505,2.54) 6(-2.791,2.54) 7(-5.077,2.54) 8(-7.363,2.54) 9(-9.649,2.54) 10(9.782,0) 11(7.496,0) 12(5.21,0) 13(2.924,0) 14(0.638,0) 15(-1.648,0) 16(-3.934,0) 17(-6.22,0) 18(-8.506,0) 19(8.639,-2.54) 20(6.353,-2.54) 21(4.067,-2.54) 22(1.781,-2.54) 23(-0.505,-2.54) 24(-2.791,-2.54) 25(-5.077,-2.54) 26(-7.363,-2.54)
Bottom Layer keep-out:
  circle w0: c16.65,0 r2.667
  circle w0: c-16.65,0 r2.667
Top Overlay:
  circle w0.152: c16.65,0 r1.651
  circle w0.152: c-16.65,0 r1.651
  rectangle: 5.01,-7.6 5.41,-1.5
  rectangle: 2.724,-7.6 3.124,-1.5
  rectangle: 0.438,-7.6 0.838,-1.5
  rectangle: 7.296,-7.6 7.696,-1.5
  rectangle: 9.582,-7.6 9.982,-1.5
  rectangle: 3.867,-7.6 4.267,-4
  rectangle: 1.581,-7.6 1.981,-4
  rectangle: -0.705,-7.6 -0.305,-4
  rectangle: 6.153,-7.6 6.553,-4
  rectangle: 8.439,-7.6 8.839,-4
  rectangle: -0.705,-1.6 -0.305,1.5
  rectangle: 1.581,-1.6 1.981,1.5
  rectangle: 3.867,-1.6 4.267,1.5
  rectangle: 6.153,-1.6 6.553,1.5
  rectangle: 8.439,-1.6 8.839,1.5
  rectangle: -6.42,-7.6 -6.02,-1.5
  rectangle: -8.706,-7.6 -8.306,-1.5
  rectangle: -4.134,-7.6 -3.734,-1.5
  rectangle: -7.563,-7.6 -7.163,-4
  rectangle: -5.277,-7.6 -4.877,-4
  rectangle: -2.991,-7.6 -2.591,-4
  rectangle: -1.848,-7.6 -1.448,-1.5
  rectangle: -2.991,-1.6 -2.591,1.5
  rectangle: -5.277,-1.6 -4.877,1.5
  rectangle: -7.563,-1.6 -7.163,1.5
  rectangle: -9.849,-1.6 -9.449,1.5
  rectangle: -9.849,-7.6 -9.449,-1.5
  lines w0.152: -19.644,-11.276 -19.644,-7.62 ; -19.6,-11.3 19.6,-11.3 ; -13.764,-11.276 -13.764,-10.368 -13.637,-10.368 ; -13.675,-7.62 -13.675,3.937 -14.183,4.445 -19.136,4.445 -19.644,3.937 -19.644,-7.62 ; -13.002,-7.62 ccw(c-13.002,-8.255) -13.637,-8.255 -13.637,-10.368 ; -12.913,-11.284 cw(c-12.913,-11.919) -12.278,-11.919 -12.278,-17.099 ccw(c-11.77,-17.099) -11.77,-17.607 11.77,-17.607 ccw(c11.77,-17.099) 12.278,-17.099 12.278,-11.919 cw(c12.913,-11.919) 12.913,-11.284 ; 13.002,-7.62 cw(c13.002,-8.255) 13.637,-8.255 13.637,-10.368 ; 13.675,-7.62 13.675,3.937 14.183,4.445 19.009,4.445 19.644,3.81 19.644,-11.276 ; 13.764,-11.276 13.764,-10.368 13.637,-10.368 ; 19.556,-7.62 -19.644,-7.62 ; -13.637,-10.368 13.637,-10.368
  text "1" at 9.79,2.095 h1.97
  text "10" at 10.89,-0.465 h1.97
  text "9" at -11.749,1.995 h1.97
  text "18" at -11.949,-0.665 h1.97
  text "19" at 10.29,-3.165 h1.97
  text "26" at -12.111,-3.365 h1.97
  text "Female" at 4.826,-9.652 h1.97
Mechanical 16:
  text "HDF26 CONEC" at -10.89,-9.891 h1.97
Via Holes:
  circle w0: c16.65,0 r2.667
  circle w0: c-16.65,0 r2.667

## HDF26V [mm]
pads (28):
  round 3 hole 3: 1(-16.65,0) 1(16.65,0)
  oct 1.35x1.35 hole 0.9: 1(8.658,1.98)
  round 1.35 hole 0.9: 2(6.372,1.98) 3(4.086,1.98) 4(1.8,1.98) 5(-0.486,1.98) 6(-2.772,1.98) 7(-5.058,1.98) 8(-7.344,1.98) 9(-9.63,1.98) 10(9.801,0) 11(7.515,0) 12(5.229,0) 13(2.943,0) 14(0.657,0) 15(-1.629,0) 16(-3.915,0) 17(-6.201,0) 18(-8.487,0) 19(8.658,-1.98) 20(6.372,-1.98) 21(4.086,-1.98) 22(1.8,-1.98) 23(-0.486,-1.98) 24(-2.772,-1.98) 25(-5.058,-1.98) 26(-7.344,-1.98)
Bottom Layer keep-out:
  circle w0: c16.672,0 r2.667
  circle w0: c-16.672,0 r2.667
Top Overlay:
  circle w0.152: c16.672,0 r1.651
  circle w0.152: c-16.672,0 r1.651
  lines w0.152: -19.071,-6.923 cw(c-19.071,-6.288) -19.706,-6.288 -19.706,6.288 cw(c-19.071,6.288) -19.071,6.923 19.063,6.923 ; -19.063,-6.923 19.071,-6.923 ccw(c19.071,-6.288) 19.706,-6.288 19.706,6.288 ccw(c19.071,6.288) 19.071,6.923 ; -12.347,2.537 -11.559,-3.146 ; -12.346,2.527 cw(c-11.026,2.791) -11.026,4.137 11.026,4.137 cw(c11.026,2.79) 12.342,2.504 ; -11.567,-3.13 ccw(c-10.264,-2.791) -10.264,-4.137 10.264,-4.137 ccw(c10.264,-2.791) 11.567,-3.13 ; 11.559,-3.121 12.347,2.511
  text "1" at 9.809,1.535 h1.97
  text "19" at -11.087,-0.665 h1.57
  text "26" at -10.392,-2.605 h1.57
  text "18" at 9.709,-2.705 h1.57
  text "10" at 10.63,0.335 h1.57
  text "9" at -11.73,1.435 h1.57
  text "Female" at 4.826,4.826 h1.97
Mechanical 16:
  text "HDF26 CONEC" at -9.62,5.349 h1.97
Via Holes:
  circle w0: c16.672,0 r2.667
  circle w0: c-16.672,0 r2.667

## HDF44H [mm]
pads (46):
  round 3 hole 3: 1(-23.52,0) 1(23.52,0)
  oct 1.35x1.35 hole 0.9: 1(15.497,2.54)
  round 1.35 hole 0.9: 2(13.211,2.54) 3(10.925,2.54) 4(8.639,2.54) 5(6.353,2.54) 6(4.067,2.54) 7(1.781,2.54) 8(-0.505,2.54) 9(-2.791,2.54) 10(-5.077,2.54) 11(-7.363,2.54) 12(-9.649,2.54) 13(-11.935,2.54) 14(-14.221,2.54) 15(-16.507,2.54) 16(16.64,0) 17(14.354,0) 18(12.068,0) 19(9.782,0) 20(7.496,0) 21(5.21,0) 22(2.924,0) 23(0.638,0) 24(-1.648,0) 25(-3.934,0) 26(-6.22,0) 27(-8.506,0) 28(-10.792,0) 29(-13.078,0) 30(-15.364,0) 31(15.497,-2.54) 32(13.211,-2.54) 33(10.925,-2.54) 34(8.639,-2.54) 35(6.353,-2.54) 36(4.067,-2.54) 37(1.781,-2.54) 38(-0.505,-2.54) 39(-2.791,-2.54) 40(-5.077,-2.54) 41(-7.363,-2.54) 42(-9.649,-2.54) 43(-11.935,-2.54) 44(-14.221,-2.54)
Bottom Layer keep-out:
  circle w0: c23.52,0 r2.667
  circle w0: c-23.52,0 r2.667
Top Overlay:
  circle w0.152: c23.52,0 r1.651
  circle w0.152: c-23.52,0 r1.651
  rectangle: 11.868,-7.6 12.268,-1.5
  rectangle: 9.582,-7.6 9.982,-1.5
  rectangle: 7.296,-7.6 7.696,-1.5
  rectangle: 14.154,-7.6 14.554,-1.5
  rectangle: 16.44,-7.6 16.84,-1.5
  rectangle: 10.725,-7.6 11.125,-4
  rectangle: 8.439,-7.6 8.839,-4
  rectangle: 6.153,-7.6 6.553,-4
  rectangle: 13.011,-7.6 13.411,-4
  rectangle: 15.297,-7.6 15.697,-4
  rectangle: 6.153,-1.6 6.553,1.5
  rectangle: 8.439,-1.6 8.839,1.5
  rectangle: 10.725,-1.6 11.125,1.5
  rectangle: 13.011,-1.6 13.411,1.5
  rectangle: 15.297,-1.6 15.697,1.5
  rectangle: 0.438,-7.6 0.838,-1.5
  rectangle: -1.848,-7.6 -1.448,-1.5
  rectangle: 2.724,-7.6 3.124,-1.5
  rectangle: -0.705,-7.6 -0.305,-4
  rectangle: 1.581,-7.6 1.981,-4
  rectangle: 3.867,-7.6 4.267,-4
  rectangle: 5.01,-7.6 5.41,-1.5
  rectangle: 3.867,-1.6 4.267,1.5
  rectangle: 1.581,-1.6 1.981,1.5
  rectangle: -0.705,-1.6 -0.305,1.5
  rectangle: -4.134,-7.6 -3.734,-1.5
  rectangle: -6.42,-7.6 -6.02,-1.5
  rectangle: -8.706,-7.6 -8.306,-1.5
  rectangle: -5.277,-7.6 -4.877,-4
  rectangle: -7.563,-7.6 -7.163,-4
  rectangle: -9.849,-7.6 -9.449,-4
  rectangle: -2.991,-7.6 -2.591,-4
  rectangle: -15.564,-7.6 -15.164,-1.5
  rectangle: -16.707,-7.6 -16.307,-1.5
  rectangle: -13.278,-7.6 -12.878,-1.5
  rectangle: -14.421,-7.6 -14.021,-4
  rectangle: -12.135,-7.6 -11.735,-4
  rectangle: -10.992,-7.6 -10.592,-1.5
  rectangle: -9.849,-1.6 -9.449,1.5
  rectangle: -7.563,-1.6 -7.163,1.5
  rectangle: -5.277,-1.6 -4.877,1.5
  rectangle: -2.991,-1.6 -2.591,1.5
  rectangle: -12.135,-1.6 -11.735,1.5
  rectangle: -14.421,-1.6 -14.021,1.5
  rectangle: -16.707,-1.6 -16.307,1.5
  lines w0.152: -26.514,-11.276 -26.514,-7.62 ; -26.47,-11.3 26.47,-11.3 ; -20.634,-11.276 -20.634,-10.368 -20.507,-10.368 ; -20.545,-7.62 -20.545,3.937 -21.053,4.445 -26.006,4.445 -26.514,3.937 -26.514,-7.62 ; -19.872,-7.62 ccw(c-19.872,-8.255) -20.507,-8.255 -20.507,-10.368 ; -19.783,-11.284 cw(c-19.783,-11.919) -19.148,-11.919 -19.148,-17.099 ccw(c-18.64,-17.099) -18.64,-17.607 18.64,-17.607 ccw(c18.64,-17.099) 19.148,-17.099 19.148,-11.919 cw(c19.783,-11.919) 19.783,-11.284 ; 19.872,-7.62 cw(c19.872,-8.255) 20.507,-8.255 20.507,-10.368 ; 20.545,-7.62 20.545,3.937 21.053,4.445 25.879,4.445 26.514,3.81 26.514,-11.276 ; 20.634,-11.276 20.634,-10.368 20.507,-10.368 ; 26.426,-7.62 -26.514,-7.62 ; -20.507,-10.368 20.507,-10.368
  text "1" at 16.648,2.095 h1.97
  text "16" at 17.748,-0.465 h1.97
  text "31" at 17.148,-3.165 h1.97
  text "15" at -19.464,1.895 h1.97
  text "30" at -19.107,-0.665 h1.97
  text "44" at -18.969,-3.265 h1.97
  text "Female" at 12.065,-9.652 h1.97
Mechanical 16:
  text "HDF44 CONEC" at -18.129,-9.891 h1.97
Via Holes:
  circle w0: c23.52,0 r2.667
  circle w0: c-23.52,0 r2.667

## HDF44HN [mil]
pads (46):
  oct 48x48 hole 32: 1(-580,-150) 2(-490,-150) 3(-400,-150) 4(-310,-150) 5(-220,-150) 6(-130,-150) 7(-40,-150) 8(50,-150) 9(140,-150) 10(230,-150) 11(320,-150) 12(410,-150) 13(500,-150) 14(590,-150) 15(680,-150) 16(-625,-50) 17(-535,-50) 18(-445,-50) 19(-355,-50) 20(-265,-50) 21(-175,-50) 22(-85,-50) 23(5,-50) 24(95,-50) 25(185,-50) 26(275,-50) 27(365,-50) 28(455,-50) 29(545,-50) 30(635,-50) 31(-580,50) 32(-490,50) 33(-400,50) 34(-310,50) 35(-220,50) 36(-130,50) 37(-40,50) 38(50,50) 39(140,50) 40(230,50) 41(320,50) 42(410,50) 43(500,50) 44(590,50)
  round 200 hole 130: G1(-903,-50) G2(951.43,-50)
Top Overlay:
  circle w6: c-903,-50 r65
  circle w6: c951.43,-50 r65
  lines w6: -793,250 cw(c-793,275) -818,275 -818,370 ; -758,410 ccw(c-758,435) -733,435 -733,635 cw(c-713,635) -713,655 761.42,655 cw(c761.42,635) 781.42,635 781.42,435 ccw(c806.42,435) 806.42,410 ; 841.42,250 ccw(c841.42,275) 866.42,275 866.42,370 ; -1023,245 -1023,250 ; -1023,245 -823,245 -823,250 ; -1023,245 -1023,-225 -998,-250 -808,-250 -788,-230 -788,250 ; -1023,250 -823,250 ; -1023,250 -1023,370 ; -1023,370 -923,370 ; -1023,370 -1023,390 ; -1023,390 -1023,410 1071.42,410 1071.42,390 ; -1023,390 -923,390 ; -923,370 -923,390 ; -923,370 -923,360 -823,360 -823,370 ; -923,390 -823,390 ; -823,250 -788,250 ; -823,370 -823,390 ; -823,370 -818,370 ; -823,390 871.42,390 ; -818,370 866.42,370 ; -788,250 -778,250 ; -778,250 -778,220 826.42,220 826.42,250 ; -778,250 826.42,250 ; 826.42,250 836.42,250 ; 836.42,250 871.42,250 ; 836.42,250 836.42,-230 856.42,-250 1051.42,-250 1071.42,-230 1071.42,245 ; 866.42,370 871.42,370 ; 871.42,250 871.42,245 1071.42,245 ; 871.42,250 1071.42,250 ; 871.42,370 871.42,360 971.42,360 971.42,370 ; 871.42,370 871.42,390 ; 871.42,390 971.42,390 ; 971.42,370 971.42,390 ; 971.42,370 1071.42,370 ; 971.42,390 1071.42,390 ; 1071.42,245 1071.42,250 ; 1071.42,250 1071.42,370 ; 1071.42,370 1071.42,390
  text "2,54" at 1051.43,50 h77.5
  text "1" at -682.53,-175 h77.5
  text "F44" at -713,285 h77.5
  text "16" at -759.06,-75 h77.5
  text "31" at -739.37,25 h77.5

## HDF44V [mm]
pads (46):
  round 3 hole 3: 1(-23.52,0) 1(23.52,0)
  oct 1.35x1.35 hole 0.9: 1(15.516,1.98)
  round 1.35 hole 0.9: 2(13.23,1.98) 3(10.944,1.98) 4(8.658,1.98) 5(6.372,1.98) 6(4.086,1.98) 7(1.8,1.98) 8(-0.486,1.98) 9(-2.772,1.98) 10(-5.058,1.98) 11(-7.344,1.98) 12(-9.63,1.98) 13(-11.916,1.98) 14(-14.202,1.98) 15(-16.488,1.98) 16(16.659,0) 17(14.373,0) 18(12.087,0) 19(9.801,0) 20(7.515,0) 21(5.229,0) 22(2.943,0) 23(0.657,0) 24(-1.629,0) 25(-3.915,0) 26(-6.201,0) 27(-8.487,0) 28(-10.773,0) 29(-13.059,0) 30(-15.345,0) 31(15.516,-1.98) 32(13.23,-1.98) 33(10.944,-1.98) 34(8.658,-1.98) 35(6.372,-1.98) 36(4.086,-1.98) 37(1.8,-1.98) 38(-0.486,-1.98) 39(-2.772,-1.98) 40(-5.058,-1.98) 41(-7.344,-1.98) 42(-9.63,-1.98) 43(-11.916,-1.98) 44(-14.202,-1.98)
Bottom Layer keep-out:
  circle w0: c23.52,0 r2.667
  circle w0: c-23.52,0 r2.667
Top Overlay:
  circle w0.152: c23.52,0 r1.651
  circle w0.152: c-23.52,0 r1.651
  lines w0.152: -25.941,-6.923 cw(c-25.941,-6.288) -26.576,-6.288 -26.576,6.288 cw(c-25.941,6.288) -25.941,6.923 25.933,6.923 ; -25.933,-6.923 25.941,-6.923 ccw(c25.941,-6.288) 26.576,-6.288 26.576,6.288 ccw(c25.941,6.288) 25.941,6.923 ; -19.216,2.527 cw(c-17.896,2.791) -17.896,4.137 17.896,4.137 cw(c17.896,2.791) 19.212,2.504 ; -19.217,2.537 -18.429,-3.146 ; -18.437,-3.13 ccw(c-17.134,-2.791) -17.134,-4.137 17.134,-4.137 ccw(c17.134,-2.791) 18.437,-3.13 ; 18.429,-3.121 19.217,2.511
  text "1" at 16.667,1.895 h1.97
  text "44" at -17.093,-2.865 h1.57
  text "16" at 17.388,0.435 h1.57
  text "15" at -18.788,2.295 h1.57
  text "30" at -18.245,-0.565 h1.57
  text "31" at 16.61,-2.265 h1.57
  text "Female" at 12.065,4.826 h1.97
Mechanical 16:
  text "HDF44 CONEC" at -19.272,5.349 h1.97
Via Holes:
  circle w0: c23.52,0 r2.667
  circle w0: c-23.52,0 r2.667